# Altium integrated library Fuses.IntLib: 31 symbols
Pins are listed as number, name and electrical type; pins without a type are passive.

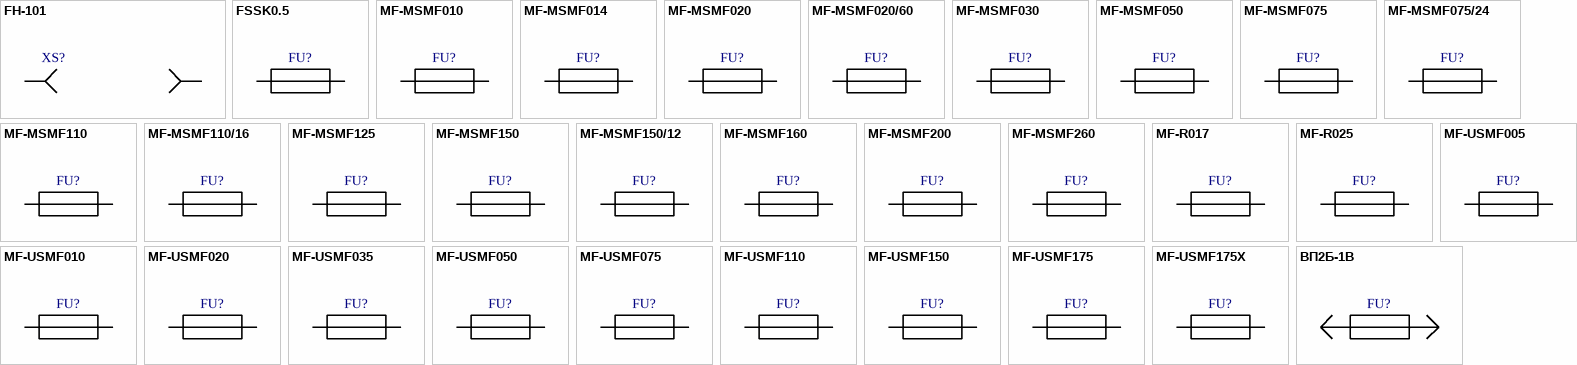
[diagram p0: symbols FH-101 to ВП2Б-1В]

## FH-101
designator XS?  (value not drawn)
Fuse Holder for 5x20mm Fuse
footprint FH-101 (Fuse Holder for 5x20mm Fuse)
pins: 1, 2

## FSSK0.5
designator FU?  (value not drawn)
Value: 0.25A
footprint FSSK0.5 (Fuse with holder)
pins: 1, 2

## MF-MSMF010
designator FU?  (value not drawn)
Resettable Fuses - PPTC 0.1A 60V 0.7ohm; Value: 0.1A
footprint MF-MSMF (MF-MSMF Series - PTC Resettable Fuses)
pins: 1, 2

## MF-MSMF014
designator FU?  (value not drawn)
Resettable Fuses - PPTC 0.14A 60V 0.4ohm; Value: 0.14A
footprint MF-MSMF (MF-MSMF Series - PTC Resettable Fuses)
pins: 1, 2

## MF-MSMF020
designator FU?  (value not drawn)
Resettable Fuses - PPTC 0.2A 30V 0.4ohm; Value: 0.2A
footprint MF-MSMF (MF-MSMF Series - PTC Resettable Fuses)
pins: 1, 2

## MF-MSMF020/60
designator FU?  (value not drawn)
Resettable Fuses - PPTC 0.2A 60V 0.4ohm; Value: 0.2A
footprint MF-MSMF (MF-MSMF Series - PTC Resettable Fuses)
pins: 1, 2

## MF-MSMF030
designator FU?  (value not drawn)
Resettable Fuses - PPTC 0.3A 30V 0.3ohm; Value: 0.3A
footprint MF-MSMF (MF-MSMF Series - PTC Resettable Fuses)
pins: 1, 2

## MF-MSMF050
designator FU?  (value not drawn)
Resettable Fuses - PPTC 0.5A 15V 0.15ohm; Value: 0.5A
footprint MF-MSMF (MF-MSMF Series - PTC Resettable Fuses)
pins: 1, 2

## MF-MSMF075
designator FU?  (value not drawn)
Resettable Fuses - PPTC 0.75A 13.2V 0.11ohm; Value: 0.75A
footprint MF-MSMF (MF-MSMF Series - PTC Resettable Fuses)
pins: 1, 2

## MF-MSMF075/24
designator FU?  (value not drawn)
Resettable Fuses - PPTC 0.75A 24V 0.11ohm; Value: 0.75A
footprint MF-MSMF (MF-MSMF Series - PTC Resettable Fuses)
pins: 1, 2

## MF-MSMF110
designator FU?  (value not drawn)
Resettable Fuses - PPTC 1.1A 6V 0.04ohm; Value: 1.1A
footprint MF-MSMF (MF-MSMF Series - PTC Resettable Fuses)
pins: 1, 2

## MF-MSMF110/16
designator FU?  (value not drawn)
Resettable Fuses - PPTC 1.1A 16V 0.04ohm; Value: 1.1A
footprint MF-MSMF (MF-MSMF Series - PTC Resettable Fuses)
pins: 1, 2

## MF-MSMF125
designator FU?  (value not drawn)
Resettable Fuses - PPTC 1.25A 6V 0.05ohm; Value: 1.25A
footprint MF-MSMF (MF-MSMF Series - PTC Resettable Fuses)
pins: 1, 2

## MF-MSMF150
designator FU?  (value not drawn)
Resettable Fuses - PPTC 1.5A 6V 0.03ohm; Value: 1.5A
footprint MF-MSMF (MF-MSMF Series - PTC Resettable Fuses)
pins: 1, 2

## MF-MSMF150/12
designator FU?  (value not drawn)
Resettable Fuses - PPTC 1.5A 12V 0.03ohm; Value: 1.5A
footprint MF-MSMF (MF-MSMF Series - PTC Resettable Fuses)
pins: 1, 2

## MF-MSMF160
designator FU?  (value not drawn)
Resettable Fuses - PPTC 1.6A 8V 0.035ohm; Value: 1.6A
footprint MF-MSMF (MF-MSMF Series - PTC Resettable Fuses)
pins: 1, 2

## MF-MSMF200
designator FU?  (value not drawn)
Resettable Fuses - PPTC 2A 8V 0.02ohm; Value: 2A
footprint MF-MSMF (MF-MSMF Series - PTC Resettable Fuses)
pins: 1, 2

## MF-MSMF260
designator FU?  (value not drawn)
Resettable Fuses - PPTC 2.6A 6V 0.015ohm; Value: 2.6A
footprint MF-MSMF (MF-MSMF Series - PTC Resettable Fuses)
pins: 1, 2

## MF-R017
designator FU?  (value not drawn)
Resettable Fuses - PTC 0.17A 60V 3.2ohm; Value: 0.17A
footprint MF-R017 (MF-R Series - PTC Resettable Fuse)
pins: 1, 2

## MF-R025
designator FU?  (value not drawn)
Resettable Fuses - PTC 0.25A 60V 1.95ohm; Value: 0.25A
footprint MF-R025 (MF-R Series - PTC Resettable Fuse)
pins: 1, 2

## MF-USMF005
designator FU?  (value not drawn)
Resettable Fuses - PPTC 0.05A 30V 2.8ohm; Manufacturer: Bourns; PartNumber: MF-USMF005; 1Ccode: М00017532; 1Cname: Предохранитель MF-USMF005-2; 1Cgroup: 01011101; 1Carticle: 1896; Name: Предохранитель MF-USMF005; Resistance: 50; Value: 0.05A; 1CfullName: Предохранитель MF-USMF005-2; Case: 1210; ComponentLink1Description: DatasheetLink; ComponentLink1URL: https://www.bourns.com/pdfs/mfusmf.pdf
footprint MF-USMF (MF-USMF Series - PTC Resettable Fuses)
pins: 1, 2

## MF-USMF010
designator FU?  (value not drawn)
Resettable Fuses - PPTC 0.2A 30V 0.8ohm; Manufacturer: Bourns; PartNumber: MF-USMF010; Value: 0.1A; 1Ccode: М00044046; 1Cname: Предохранитель самовосстанавливающийся MF-USMD010-2 0,1 A; 1Cgroup: 01011101; 1Carticle: 33049; Name: Предохранитель MF-USMF010; Resistance: 15; 1CfullName: Предохранитель самовосстанавливающийся MF-USMD010-2 0,1 A; Case: 1210; ComponentLink1Description: DatasheetLink; ComponentLink1URL: https://www.bourns.com/pdfs/mfusmf.pdf
footprint MF-USMF (MF-USMF Series - PTC Resettable Fuses)
pins: 1, 2

## MF-USMF020
designator FU?  (value not drawn)
Resettable Fuses - PPTC 0.2A 30V 0.4ohm; Manufacturer: Bourns; PartNumber: MF-USMF020; 1Ccode: М00066837; 1Cname: Предохранитель MF-USMF-020-2 Bourns; 1Cgroup: 01011101; 1Carticle: 56786; Name: Предохранитель MF-USMF020; Resistance: 5; Value: 0.2A; 1CfullName: Предохранитель MF-USMF-020-2 Bourns; Case: 1210; ComponentLink1Description: DatasheetLink; ComponentLink1URL: https://www.bourns.com/pdfs/mfusmf.pdf
footprint MF-USMF (MF-USMF Series - PTC Resettable Fuses)
pins: 1, 2

## MF-USMF035
designator FU?  (value not drawn)
Resettable Fuses - PPTC 0.35A 6V 0.2ohm; Value: 0.35A
footprint MF-USMF (MF-USMF Series - PTC Resettable Fuses)
pins: 1, 2

## MF-USMF050
designator FU?  (value not drawn)
Resettable Fuses - PPTC 0.5A 13.2V 0.18ohm; Value: 0.5A
footprint MF-USMF (MF-USMF Series - PTC Resettable Fuses)
pins: 1, 2

## MF-USMF075
designator FU?  (value not drawn)
Resettable Fuses - PPTC 0.75A 6V 0.07ohm; Value: 0.75A
footprint MF-USMF (MF-USMF Series - PTC Resettable Fuses)
pins: 1, 2

## MF-USMF110
designator FU?  (value not drawn)
Resettable Fuses - PPTC 1.1A 6V 0.05ohm; Value: 1.1A
footprint MF-USMF (MF-USMF Series - PTC Resettable Fuses)
pins: 1, 2

## MF-USMF150
designator FU?  (value not drawn)
Resettable Fuses - PPTC 1.5A 6V 0.03ohm; Value: 1.5A
footprint MF-USMF (MF-USMF Series - PTC Resettable Fuses)
pins: 1, 2

## MF-USMF175
designator FU?  (value not drawn)
Resettable Fuses - PPTC 1.75A 6V 0.02ohm; Value: 1.75A
footprint MF-USMF (MF-USMF Series - PTC Resettable Fuses)
pins: 1, 2

## MF-USMF175X
designator FU?  (value not drawn)
Resettable Fuses - PPTC 1.75A 6V 0.02ohm; Value: 1.75A
footprint MF-USMF (MF-USMF Series - PTC Resettable Fuses)
pins: 1, 2

## ВП2Б-1В
designator FU?  (value not drawn)
Предохранитель керамический 10А 250В 5х20 мм; Value: 10A